# EAGLE library part TPS2511-MSOP8 (library TPS2511)
TPS2511 in MSOP 8 pin package
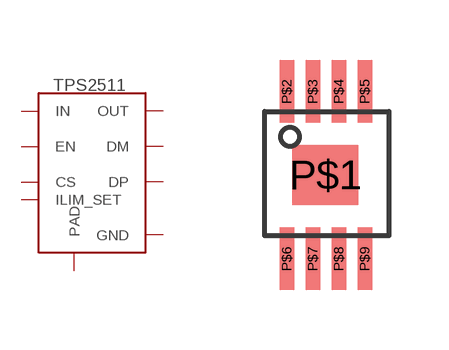
[diagram p1: symbol with the pads of MSOP-8; footprint MSOP-8]

Designator prefix -

## TPS2511-MSOP8  [MSOP-8]
P$1  GND  pwr
P$2  ILIM_SET
P$3  IN  pwr
P$4  CS
P$5  EN
P$6  DP
P$7  DM
P$8  OUT  pwr
P$9  PAD  pwr

## Footprint MSOP-8 (pad centres in mm)
smd 1.65 x 1.5: P$1 -2.286,2.095
smd 0.356 x 1.575: P$2 -3.25,4.188; P$3 -2.6,4.188; P$4 -1.95,4.188; P$5 -1.3,4.188; P$6 -3.25,0; P$7 -2.6,0; P$8 -1.95,0; P$9 -1.3,0